# EAGLE library part DUAL_MOTOR_DRIVER (library pololu motor driver)
DRV8835 Dual Motor Driver Carrier
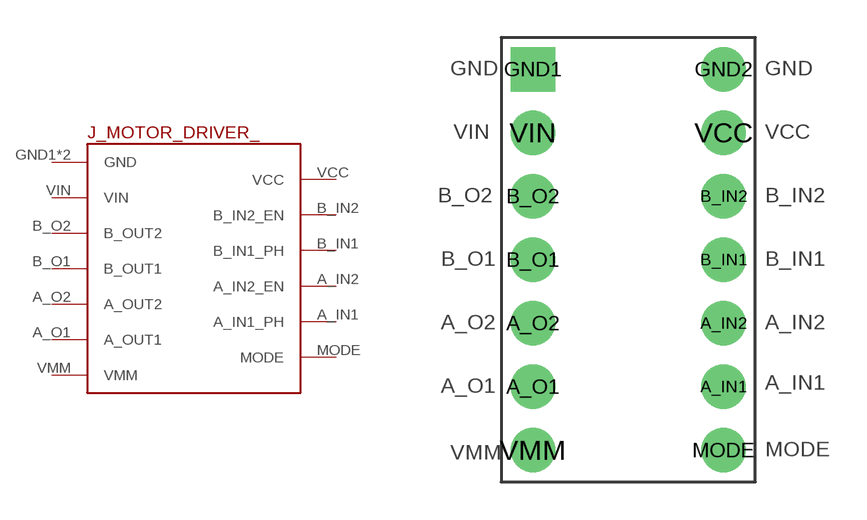
[diagram p0: symbol with the pads of MOTOR_DRIVER_FOOTPRINT; footprint MOTOR_DRIVER_FOOTPRINT]

Designator prefix J_MOTOR_DRIVER_

## DUAL_MOTOR_DRIVER  [MOTOR_DRIVER_FOOTPRINT]
A_IN1  A_IN1_PH
A_IN2  A_IN2_EN
A_O1  A_OUT1
A_O2  A_OUT2
B_IN1  B_IN1_PH
B_IN2  B_IN2_EN
B_O1  B_OUT1
B_O2  B_OUT2
GND1  GND
GND2  GND
MODE  MODE
VCC  VCC
VIN  VIN
VMM  VMM

## Footprint MOTOR_DRIVER_FOOTPRINT (pad centres in mm)
DRV8835 Dual Motor Driver Carrier Footprint
drill 0.9 pad 1.778: A_IN1 3.81,-5.08; A_IN2 3.81,-2.54; A_O1 -3.81,-5.08; A_O2 -3.81,-2.54; B_IN1 3.81,0; B_IN2 3.81,2.54; B_O1 -3.81,0; B_O2 -3.81,2.54; GND2 3.81,7.62; MODE 3.81,-7.62; VCC 3.81,5.08; VIN -3.81,5.08; VMM -3.81,-7.62
drill 0.9 pad 1.778 square: GND1 -3.81,7.62